# Altium integrated library QTH-030-02-F-D-A.IntLib: 1 symbol
Pins are listed as number, name and electrical type; pins without a type are passive.

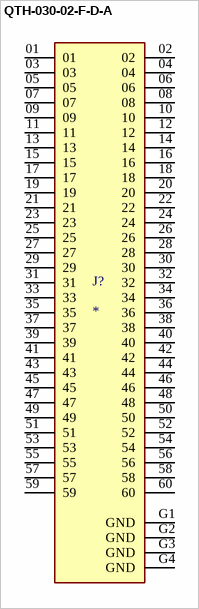
[diagram p0: symbol QTH-030-02-F-D-A]

## QTH-030-02-F-D-A
designator J?
MF: Samtec; MP: QTH-030-02-F-D-A; Price: None; Value: *; Package: None; Availability: Unavailable
footprint SAMTEC_QTH-030-02-F-D-A
pins: 01, 02, 03, 04, 05, 06, 07, 08, 09, 10, 11, 12, 13, 14, 15, 16, 17, 18, 19, 20, 21, 22, 23, 24, 25, 26, 27, 28, 29, 30, 31, 32, 33, 34, 35, 36, 37, 38, 39, 40, 41, 42, 43, 44, 45, 46, 47, 48, 49, 50, 51, 52, 53, 54, 55, 56, 57, 58, 59, 60, G1 GND (power), G2 GND (power), G3 GND (power), G4 GND (power)